# Altium integrated library 74HC00N_652.IntLib: 1 symbol
Pins are listed as number, name and electrical type; pins without a type are passive.

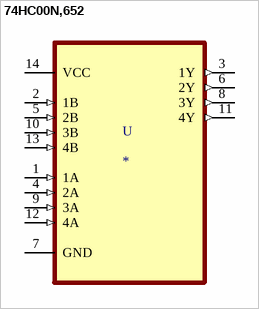
[diagram p0: symbol 74HC00N,652]

## 74HC00N,652
designator U
NAND Gate IC 4-канальный 14-DIP; MF: NXP USA; MP: 74HC00N,652
footprint DIP254P762X420-14
pins: 1 1A (in), 2 1B (in), 3 1Y (out), 4 2A (in), 5 2B (in), 6 2Y (out), 7 GND, 8 3Y (out), 9 3A (in), 10 3B (in), 11 4Y (out), 12 4A (in), 13 4B (in), 14 VCC (power)